# Altium schematic symbol library 1x4 Keypad.SchLib: 1 symbol
Pins are listed as number, name and electrical type; pins without a type are passive.

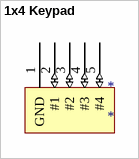
[diagram p0: symbol 1x4 Keypad]

## 1x4 Keypad
designator *
pins: 1 GND (power), 2 #1 (io), 3 #2 (io), 4 #3 (io), 5 #4 (io)